# EAGLE library part LMDPARTS_NC7WZ14P6X (library mini-v1.14-macrofab-rtg)
2-circuit logic inverter, ultra-high-speed and cheap
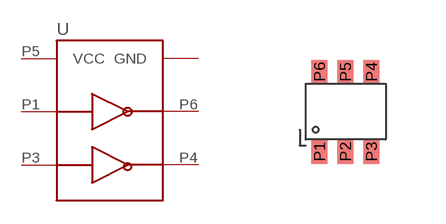
[diagram p1: symbol with the pads of LMDPARTS_SC70-6; footprint LMDPARTS_SC70-6]

Designator prefix -

## LMDPARTS_NC7WZ14P6X  [LMDPARTS_SC70-6]
P1  A1  in
P2  GND  pwr
P3  A2  in
P4  Y2  out
P5  VCC  pwr
P6  Y1  out

## Footprint LMDPARTS_SC70-6 (pad centres in mm)
smd 0.4 x 0.6: P1 -0.65,-1; P2 0,-1; P3 0.65,-1; P4 0.65,1; P5 0,1; P6 -0.65,1